# EAGLE library part NC7WZ14P6 (library Fairchild_By_element14_Batch_1)
Dual Inverter
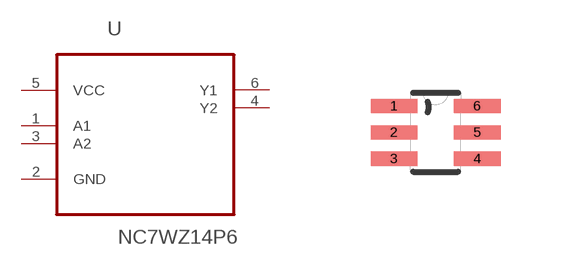
[diagram p374: symbol with the pads of SOT65P210X110-6N; footprint SOT65P210X110-6N]

Designator prefix U

## NC7WZ14P6 (MPN: NC7WZ14P6; OC_FARNELL: 1607796; OC_NEWARK: 34C1588; PACKAGE: SC70-6; SUPPLIER: FAIRCHILD SEMICONDUCTOR)  [SOT65P210X110-6N]
1  A1  in
2  GND  pas
3  A2  in
4  Y2  out
5  VCC  pwr
6  Y1  out

## Footprint SOT65P210X110-6N (pad centres in mm)
smd 1.168 x 0.356: 1 -1.041,0.66; 2 -1.041,0; 3 -1.041,-0.66; 4 1.041,-0.66; 5 1.041,0; 6 1.041,0.66